# Altium footprint library ece315.PcbLib: 26 footprints (part 2 of 2)
Each footprint in its own frame and in the unit in brackets; x right, y up, seen from the top. Pads: shape width x height; smd on the part's side, far side on the other; paste and mask are expansions set on the pad; w line width, h text height; cw(c..) or ccw(c..) is an arc to the next point about the centre after c.
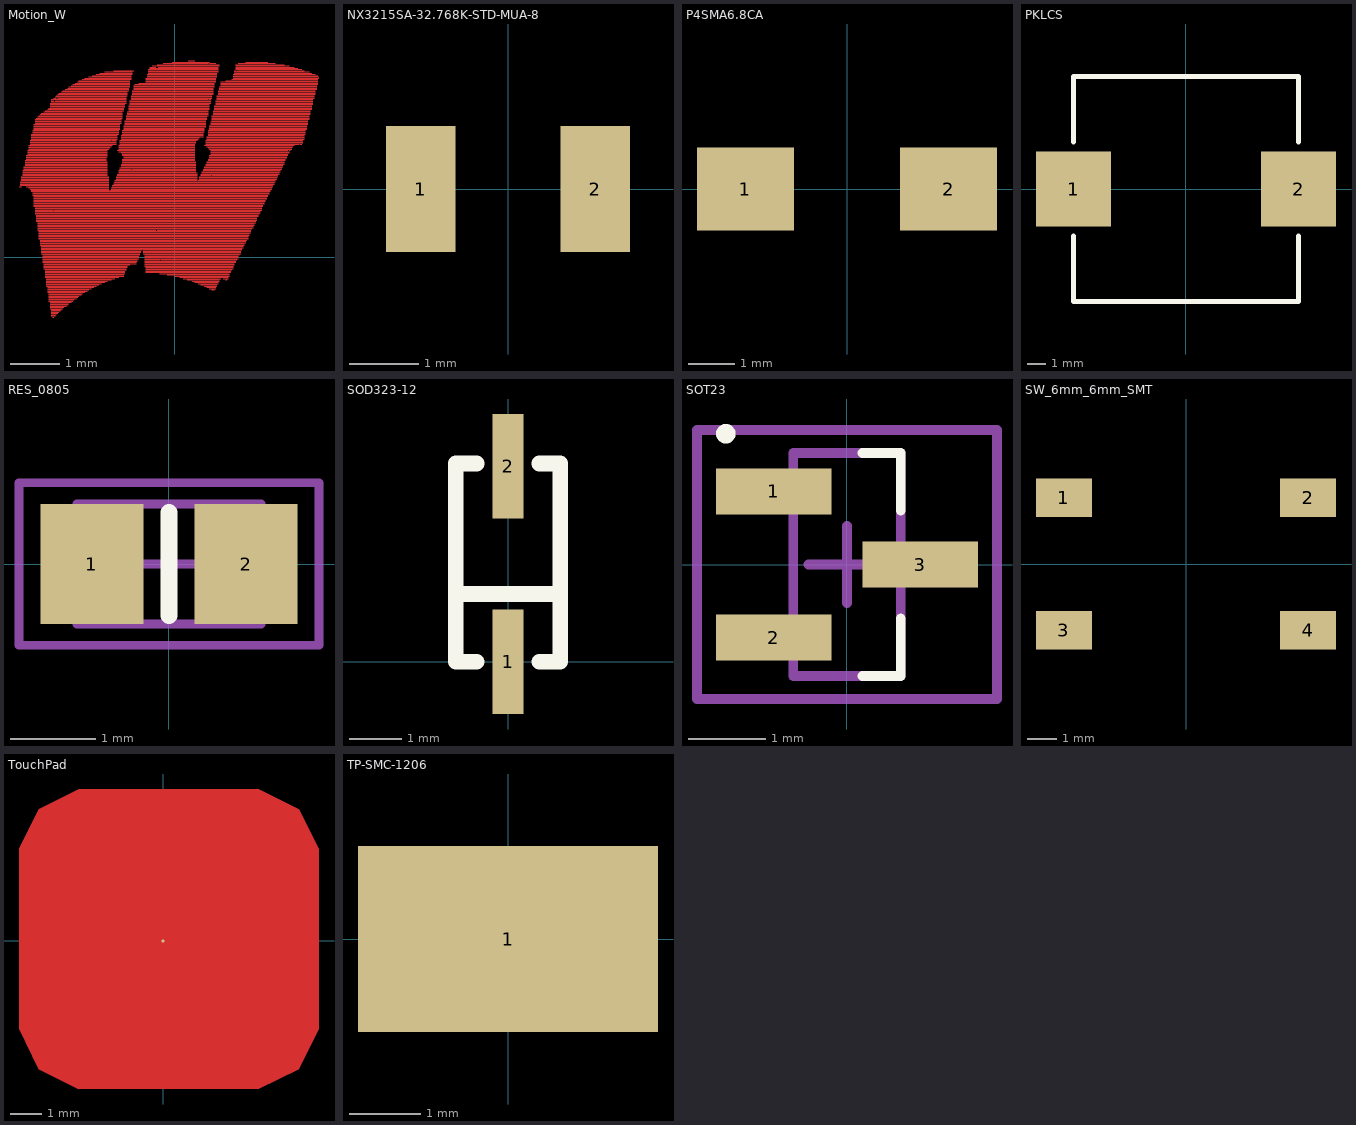
[diagram p1: the footprints below, top view; thin cyan lines are the x and y axes]

## Motion_W [mm]
Top Layer:
  lines w0.025: -3.175,1.448 -3.124,1.448 ; -3.15,1.473 -1.346,1.473 ; -3.15,1.499 -1.346,1.499 ; -3.15,1.524 -1.346,1.524 ; -3.15,1.549 -1.346,1.549 ; -3.124,1.575 -1.346,1.575 ; -3.124,1.6 -1.346,1.6 ; -3.124,1.626 -1.346,1.626 ; -3.124,1.651 -1.346,1.651 ; -3.099,1.676 -1.372,1.676 ; -3.099,1.702 -1.372,1.702 ; -3.099,1.727 -1.372,1.727 ; -3.099,1.753 -1.372,1.753 ; -3.099,1.778 -1.372,1.778 ; -3.073,1.803 -1.372,1.803 ; -3.073,1.829 -1.372,1.829 ; -3.073,1.854 -1.372,1.854 ; -3.048,1.88 -1.372,1.88 ; -3.048,1.905 -1.372,1.905 ; -3.048,1.93 -1.372,1.93 ; -3.048,1.956 -1.372,1.956 ; -3.048,1.981 -1.397,1.981 ; -3.023,1.448 -1.346,1.448 ; -3.023,2.007 -1.397,2.007 ; -3.023,2.032 -1.397,2.032 ; -3.023,2.057 -1.372,2.057 ; -3.023,2.083 -1.372,2.083 ; -2.997,2.108 -1.372,2.108 ; -2.997,2.134 -1.372,2.134 ; -2.997,2.159 -1.372,2.159 ; -2.997,2.184 -1.372,2.184 ; -2.972,1.422 -1.346,1.422 ; -2.972,2.21 -1.346,2.21 ; -2.972,2.235 -1.321,2.235 ; -2.972,2.261 -1.295,2.261 ; -2.972,2.286 -1.27,2.286 ; -2.946,1.397 -1.346,1.397 ; -2.946,2.311 -1.194,2.311 ; -2.946,2.337 -1.194,2.337 ; -2.946,2.362 -1.194,2.362 ; -2.946,2.388 -1.295,2.388 ; -2.921,1.346 1.956,1.346 ; -2.921,1.372 -1.346,1.372 ; -2.921,2.413 -1.168,2.413 ; -2.921,2.438 -1.168,2.438 ; -2.921,2.464 -1.168,2.464 ; -2.921,2.489 -1.168,2.489 ; -2.921,2.515 -1.143,2.515 ; -2.896,1.27 1.905,1.27 ; -2.896,1.295 1.93,1.295 ; -2.896,1.321 1.93,1.321 ; -2.896,2.54 -1.143,2.54 ; -2.896,2.565 -1.143,2.565 ; -2.896,2.591 -1.143,2.591 ; -2.87,1.041 1.803,1.041 ; -2.87,1.067 1.803,1.067 ; -2.87,1.092 1.829,1.092 ; -2.87,1.118 1.829,1.118 ; -2.87,1.143 1.854,1.143 ; -2.87,1.168 1.854,1.168 ; -2.87,1.194 1.88,1.194 ; -2.87,1.219 1.88,1.219 ; -2.87,1.245 1.905,1.245 ; -2.87,2.616 -1.118,2.616 ; -2.87,2.642 -1.118,2.642 ; -2.87,2.667 -1.118,2.667 ; -2.87,2.692 -1.118,2.692 ; -2.87,2.718 -1.118,2.718 ; -2.845,0.889 1.727,0.889 ; -2.845,0.914 1.753,0.914 ; -2.845,0.94 1.753,0.94 ; -2.845,0.965 -2.489,0.965 ; -2.845,0.991 1.778,0.991 ; -2.845,1.016 1.778,1.016 ; -2.845,2.743 -1.092,2.743 ; -2.845,2.769 -1.092,2.769 ; -2.845,2.794 -1.092,2.794 ; -2.845,2.819 -1.092,2.819 ; -2.819,0.737 1.651,0.737 ; -2.819,0.762 1.676,0.762 ; -2.819,0.787 1.676,0.787 ; -2.819,0.813 1.676,0.813 ; -2.819,0.838 1.702,0.838 ; -2.819,0.864 1.702,0.864 ; -2.819,2.845 -1.067,2.845 ; -2.794,0.559 -0.381,0.559 ; -2.794,0.584 1.575,0.584 ; -2.794,0.61 1.6,0.61 ; -2.794,0.635 1.6,0.635 ; -2.794,0.66 1.626,0.66 ; -2.794,0.686 1.626,0.686 ; -2.794,0.711 1.651,0.711 ; -2.794,2.87 -1.067,2.87 ; -2.769,0.381 1.499,0.381 ; -2.769,0.406 1.499,0.406 ; -2.769,0.432 1.499,0.432 ; -2.769,0.457 1.524,0.457 ; -2.769,0.483 1.524,0.483 ; -2.769,0.508 1.549,0.508 ; -2.769,0.533 1.549,0.533 ; -2.769,2.896 -1.067,2.896 ; -2.743,0.254 1.422,0.254 ; -2.743,0.279 1.422,0.279 ; -2.743,0.305 1.448,0.305 ; -2.743,0.33 1.448,0.33 ; -2.743,0.356 1.473,0.356 ; -2.743,2.921 -1.067,2.921 ; -2.718,0.076 -0.711,0.076 ; -2.718,0.102 -0.686,0.102 ; -2.718,0.127 -0.686,0.127 ; -2.718,0.152 -0.66,0.152 ; -2.718,0.178 1.372,0.178 ; -2.718,0.203 1.397,0.203 ; -2.718,0.229 1.397,0.229 ; -2.718,2.946 -1.067,2.946 ; -2.692,-0.102 -0.787,-0.102 ; -2.692,-0.076 -0.762,-0.076 ; -2.692,-0.051 -0.762,-0.051 ; -2.692,-0.025 -0.737,-0.025 ; -2.692,0 -0.737,0 ; -2.692,0.025 -0.737,0.025 ; -2.692,0.051 -0.711,0.051 ; -2.667,-0.229 -0.991,-0.229 ; -2.667,-0.203 -0.965,-0.203 ; -2.667,-0.178 -0.965,-0.178 ; -2.667,-0.152 -0.914,-0.152 ; -2.667,-0.127 -0.787,-0.127 ; -2.667,2.972 -1.067,2.972 ; -2.642,-0.406 -1.143,-0.406 ; -2.642,-0.381 -1.041,-0.381 ; -2.642,-0.356 -1.041,-0.356 ; -2.642,-0.33 -1.016,-0.33 ; -2.642,-0.305 -1.016,-0.305 ; -2.642,-0.279 -1.016,-0.279 ; -2.642,-0.254 -0.991,-0.254 ; -2.642,2.997 -1.041,2.997 ; -2.616,-0.584 -1.6,-0.584 ; -2.616,-0.559 -1.549,-0.559 ; -2.616,-0.533 -1.499,-0.533 ; -2.616,-0.508 -1.422,-0.508 ; -2.616,-0.483 -1.372,-0.483 ; -2.616,-0.457 -1.295,-0.457 ; -2.616,-0.432 -1.219,-0.432 ; -2.591,-0.711 -1.829,-0.711 ; -2.591,-0.686 -1.778,-0.686 ; -2.591,-0.66 -1.753,-0.66 ; -2.591,-0.635 -1.702,-0.635 ; -2.591,-0.61 -1.651,-0.61 ; -2.591,3.023 -1.041,3.023 ; -2.565,-0.889 -2.083,-0.889 ; -2.565,-0.864 -2.057,-0.864 ; -2.565,-0.838 -2.007,-0.838 ; -2.565,-0.813 -1.981,-0.813 ; -2.565,-0.787 -1.956,-0.787 ; -2.565,-0.762 -1.905,-0.762 ; -2.565,-0.737 -1.88,-0.737 ; -2.565,3.048 -1.041,3.048 ; -2.54,-1.041 -2.286,-1.041 ; -2.54,-1.016 -2.261,-1.016 ; -2.54,-0.991 -2.21,-0.991 ; -2.54,-0.965 -2.184,-0.965 ; -2.54,-0.94 -2.159,-0.94 ; -2.54,-0.914 -2.108,-0.914 ; -2.54,3.073 -1.016,3.073 ; -2.54,3.099 -1.016,3.099 ; -2.54,3.124 -1.016,3.124 ; -2.54,3.15 -0.991,3.15 ; -2.515,-1.194 -2.438,-1.194 ; -2.515,-1.168 -2.413,-1.168 ; -2.515,-1.143 -2.388,-1.143 ; -2.515,-1.118 -2.362,-1.118 ; -2.515,-1.092 -2.337,-1.092 ; -2.515,-1.067 -2.311,-1.067 ; -2.515,3.175 -0.991,3.175 ; -2.515,3.2 -2.464,3.2 ; -2.515,3.226 -0.991,3.226 ; -2.489,-1.219 -2.464,-1.219 ; -2.464,0.965 1.778,0.965 ; -2.464,3.251 -2.413,3.251 ; -2.438,3.2 -0.991,3.2 ; -2.438,3.277 -0.991,3.277 ; -2.413,3.302 -0.965,3.302 ; -2.388,3.251 -0.991,3.251 ; -2.388,3.327 -0.965,3.327 ; -2.362,3.353 -0.965,3.353 ; -2.311,3.378 -0.965,3.378 ; -2.286,3.404 -0.94,3.404 ; -2.235,3.429 -0.94,3.429 ; -2.184,3.454 -0.94,3.454 ; -2.159,3.48 -0.914,3.48 ; -2.108,3.505 -0.914,3.505 ; -2.083,3.531 -0.914,3.531 ; -2.032,3.556 -0.914,3.556 ; -1.981,3.581 -0.914,3.581 ; -1.956,3.607 -0.914,3.607 ; -1.88,3.632 -0.889,3.632 ; -1.829,3.658 -0.889,3.658 ; -1.753,3.683 -0.889,3.683 ; -1.676,3.708 -0.889,3.708 ; -1.6,3.734 -0.864,3.734 ; -1.524,3.759 -0.864,3.759 ; -1.422,3.785 -0.864,3.785 ; -1.321,1.372 1.956,1.372 ; -1.295,1.397 1.981,1.397 ; -1.295,1.422 1.981,1.422 ; -1.27,1.448 2.007,1.448 ; -1.27,1.473 2.007,1.473 ; -1.27,2.388 -1.194,2.388 ; -1.245,1.499 2.032,1.499 ; -1.245,1.524 2.032,1.524 ; -1.245,3.81 -0.838,3.81 ; -1.219,1.549 2.057,1.549 ; -1.219,1.575 0.457,1.575 ; -1.194,1.6 0.457,1.6 ; -1.194,1.626 0.457,1.626 ; -1.194,1.651 0.457,1.651 ; -1.168,1.676 0.457,1.676 ; -1.168,1.702 0.457,1.702 ; -1.168,2.184 0.406,2.184 ; -1.143,1.727 0.457,1.727 ; -1.143,1.753 0.432,1.753 ; -1.143,1.778 0.432,1.778 ; -1.143,2.159 0.406,2.159 ; -1.143,2.21 0.406,2.21 ; -1.143,2.235 0.406,2.235 ; -1.143,2.261 0.406,2.261 ; -1.143,2.286 0.406,2.286 ; -1.118,1.803 -0.889,1.803 ; -1.118,1.829 0.432,1.829 ; -1.118,2.311 0.406,2.311 ; -1.118,2.337 0.432,2.337 ; -1.118,2.362 0.432,2.362 ; -1.118,2.388 0.457,2.388 ; -1.092,1.854 0.432,1.854 ; -1.092,1.88 0.432,1.88 ; -1.092,1.905 0.432,1.905 ; -1.092,2.134 0.406,2.134 ; -1.092,2.413 0.483,2.413 ; -1.092,2.438 0.508,2.438 ; -1.092,2.464 0.584,2.464 ; -1.092,2.489 0.584,2.489 ; -1.067,1.93 0.432,1.93 ; -1.067,1.956 0.432,1.956 ; -1.067,1.981 0.406,1.981 ; -1.067,2.007 0.406,2.007 ; -1.067,2.083 0.406,2.083 ; -1.067,2.108 0.406,2.108 ; -1.067,2.515 0.584,2.515 ; -1.067,2.54 0.584,2.54 ; -1.067,2.565 0.61,2.565 ; -1.067,2.591 0.61,2.591 ; -1.041,2.032 0.406,2.032 ; -1.041,2.057 0.406,2.057 ; -1.041,2.616 0.61,2.616 ; -1.041,2.642 0.61,2.642 ; -1.041,2.667 0.635,2.667 ; -1.041,2.692 0.635,2.692 ; -1.016,2.718 0.635,2.718 ; -1.016,2.743 0.635,2.743 ; -1.016,2.769 0.635,2.769 ; -1.016,2.794 0.635,2.794 ; -0.991,2.819 0.66,2.819 ; -0.991,2.845 0.66,2.845 ; -0.991,2.87 0.66,2.87 ; -0.991,2.896 0.686,2.896 ; -0.965,2.921 0.686,2.921 ; -0.965,2.946 0.686,2.946 ; -0.965,2.972 0.686,2.972 ; -0.94,2.997 0.686,2.997 ; -0.94,3.023 0.711,3.023 ; -0.94,3.048 0.711,3.048 ; -0.94,3.073 0.711,3.073 ; -0.94,3.099 0.711,3.099 ; -0.914,3.124 0.711,3.124 ; -0.914,3.15 0.737,3.15 ; -0.914,3.175 0.737,3.175 ; -0.914,3.2 0.737,3.2 ; -0.889,3.226 0.686,3.226 ; -0.889,3.251 0.762,3.251 ; -0.889,3.277 0.762,3.277 ; -0.889,3.302 0.762,3.302 ; -0.864,1.803 0.432,1.803 ; -0.864,3.327 0.787,3.327 ; -0.864,3.353 0.787,3.353 ; -0.864,3.378 0.787,3.378 ; -0.864,3.404 0.787,3.404 ; -0.838,3.429 0.787,3.429 ; -0.838,3.454 0.787,3.454 ; -0.838,3.48 0.813,3.48 ; -0.838,3.505 0.813,3.505 ; -0.813,3.531 0.813,3.531 ; -0.737,3.556 0.813,3.556 ; -0.635,0.076 1.346,0.076 ; -0.635,0.102 1.346,0.102 ; -0.635,0.127 1.346,0.127 ; -0.635,0.152 1.372,0.152 ; -0.61,-0.178 1.194,-0.178 ; -0.61,-0.152 1.219,-0.152 ; -0.61,-0.127 1.219,-0.127 ; -0.61,-0.102 1.245,-0.102 ; -0.61,-0.076 1.245,-0.076 ; -0.61,-0.051 -0.305,-0.051 ; -0.61,-0.025 1.295,-0.025 ; -0.61,0 1.295,0 ; -0.61,0.025 1.295,0.025 ; -0.61,0.051 1.321,0.051 ; -0.584,-0.305 1.143,-0.305 ; -0.584,-0.279 1.143,-0.279 ; -0.584,-0.254 1.168,-0.254 ; -0.584,-0.229 1.194,-0.229 ; -0.584,-0.203 1.194,-0.203 ; -0.584,3.581 0.838,3.581 ; -0.584,3.607 0.838,3.607 ; -0.584,3.632 0.838,3.632 ; -0.584,3.658 0.838,3.658 ; -0.559,3.683 0.864,3.683 ; -0.559,3.708 0.864,3.708 ; -0.559,3.734 0.864,3.734 ; -0.533,3.759 0.864,3.759 ; -0.533,3.785 0.889,3.785 ; -0.533,3.81 0.889,3.81 ; -0.533,3.835 0.889,3.835 ; -0.508,3.861 0.889,3.861 ; -0.508,3.886 -0.381,3.886 ; -0.457,3.912 0.914,3.912 ; -0.356,0.559 1.549,0.559 ; -0.356,3.937 0.914,3.937 ; -0.33,3.886 0.889,3.886 ; -0.305,-0.33 1.118,-0.33 ; -0.279,-0.051 1.27,-0.051 ; -0.229,3.962 0.686,3.962 ; -0.152,-0.356 1.118,-0.356 ; -0.051,3.988 0.711,3.988 ; 0,-0.381 1.118,-0.381 ; 0.102,-0.406 1.092,-0.406 ; 0.178,-0.432 0.94,-0.432 ; 0.254,-0.457 0.914,-0.457 ; 0.279,4.013 0.406,4.013 ; 0.356,-0.483 0.914,-0.483 ; 0.406,-0.508 0.889,-0.508 ; 0.483,-0.533 0.889,-0.533 ; 0.483,1.575 2.057,1.575 ; 0.508,1.6 2.083,1.6 ; 0.508,1.626 2.083,1.626 ; 0.508,1.651 2.108,1.651 ; 0.533,-0.559 0.864,-0.559 ; 0.533,1.676 0.737,1.676 ; 0.533,1.702 2.134,1.702 ; 0.559,1.727 2.134,1.727 ; 0.559,1.753 2.159,1.753 ; 0.584,1.778 2.159,1.778 ; 0.584,1.803 2.184,1.803 ; 0.61,-0.584 0.864,-0.584 ; 0.61,1.829 2.184,1.829 ; 0.61,1.854 2.21,1.854 ; 0.61,2.286 2.438,2.286 ; 0.635,1.88 2.21,1.88 ; 0.635,1.905 2.235,1.905 ; 0.635,2.311 2.54,2.311 ; 0.635,2.337 2.616,2.337 ; 0.635,2.362 2.616,2.362 ; 0.635,2.388 2.616,2.388 ; 0.66,-0.61 0.838,-0.61 ; 0.66,1.93 2.235,1.93 ; 0.66,1.956 2.235,1.956 ; 0.66,2.261 2.413,2.261 ; 0.66,2.413 2.642,2.413 ; 0.66,2.438 2.642,2.438 ; 0.66,2.464 2.642,2.464 ; 0.686,1.981 2.261,1.981 ; 0.686,2.007 2.261,2.007 ; 0.686,2.235 2.388,2.235 ; 0.686,2.489 2.642,2.489 ; 0.686,2.515 2.667,2.515 ; 0.686,2.54 2.667,2.54 ; 0.686,2.565 2.667,2.565 ; 0.686,2.591 2.667,2.591 ; 0.711,-0.635 0.838,-0.635 ; 0.711,2.032 2.286,2.032 ; 0.711,2.057 2.286,2.057 ; 0.711,2.083 2.311,2.083 ; 0.711,2.21 2.388,2.21 ; 0.711,2.616 2.692,2.616 ; 0.711,2.642 2.692,2.642 ; 0.711,2.667 2.692,2.667 ; 0.711,2.692 2.692,2.692 ; 0.711,3.226 0.737,3.226 ; 0.711,3.962 0.838,3.962 ; 0.737,2.108 2.311,2.108 ; 0.737,2.134 2.337,2.134 ; 0.737,2.159 2.337,2.159 ; 0.737,2.184 2.311,2.184 ; 0.737,2.718 2.718,2.718 ; 0.737,2.743 2.718,2.743 ; 0.737,2.769 2.718,2.769 ; 0.762,-0.66 0.813,-0.66 ; 0.762,1.676 2.108,1.676 ; 0.762,2.794 2.718,2.794 ; 0.762,2.819 2.743,2.819 ; 0.762,2.845 2.743,2.845 ; 0.762,2.87 2.743,2.87 ; 0.762,2.896 2.743,2.896 ; 0.787,2.921 2.769,2.921 ; 0.787,2.946 2.769,2.946 ; 0.787,2.972 2.769,2.972 ; 0.787,2.997 2.769,2.997 ; 0.813,3.023 2.794,3.023 ; 0.813,3.048 2.794,3.048 ; 0.813,3.073 2.794,3.073 ; 0.813,3.099 2.794,3.099 ; 0.838,3.124 2.819,3.124 ; 0.838,3.15 2.819,3.15 ; 0.838,3.175 2.819,3.175 ; 0.838,3.2 2.819,3.2 ; 0.864,3.226 2.819,3.226 ; 0.864,3.251 2.845,3.251 ; 0.864,3.277 2.845,3.277 ; 0.864,3.302 2.845,3.302 ; 0.889,3.327 2.87,3.327 ; 0.889,3.353 2.87,3.353 ; 0.889,3.378 2.87,3.378 ; 0.889,3.404 2.87,3.404 ; 0.914,3.429 2.896,3.429 ; 0.914,3.454 2.896,3.454 ; 0.914,3.48 2.896,3.48 ; 0.94,3.505 2.896,3.505 ; 0.94,3.531 2.921,3.531 ; 0.94,3.556 2.921,3.556 ; 0.94,3.581 2.921,3.581 ; 0.991,-0.432 1.092,-0.432 ; 1.041,-0.457 1.067,-0.457 ; 1.041,3.607 2.921,3.607 ; 1.168,3.632 2.921,3.632 ; 1.194,3.658 2.946,3.658 ; 1.194,3.683 2.946,3.683 ; 1.194,3.708 2.921,3.708 ; 1.194,3.734 2.87,3.734 ; 1.219,3.759 2.794,3.759 ; 1.219,3.785 2.743,3.785 ; 1.219,3.81 1.245,3.81 ; 1.245,3.835 2.591,3.835 ; 1.245,3.861 2.515,3.861 ; 1.245,3.886 2.438,3.886 ; 1.245,3.912 2.337,3.912 ; 1.245,3.937 2.235,3.937 ; 1.27,3.81 2.642,3.81 ; 1.295,3.962 2.057,3.962 ; 1.448,3.988 1.905,3.988 ; 2.337,2.184 2.362,2.184 ; 2.565,2.311 2.591,2.311
Top Solder:
  drawing of 450 lines, arcs and shapes, not listed

## NX3215SA-32.768K-STD-MUA-8 [mm] "CRYSTAL 32.7680KHZ 12.5PF SMD"
pads (2):
  rect 1x1.8 smd: 1(-1.25,0) 2(1.25,0)

## P4SMA6.8CA [mm] "TVS Diode"
pads (2):
  rect 2.1x1.8 smd: 1(-2.2,0) 2(2.2,0)
3D body "P4SMASeries-M.stp": height 2.34, standoff 0, extent -2.641,-1.397 2.642,1.397

## PKLCS [mm] "Piezo Buzzer umuRata"
height 1.9
pads (2):
  rect 4x4 smd: 1(-6,0) 2(6,0)
Top Overlay:
  lines w0.254: -6,-2.5 -6,-6 6,-6 6,-2.5 ; -6,2.5 -6,6 6,6 6,2.5

## RES_0805 [mm] "Chip Resistor, Body 2.0x1.3mm, IPC Medium Density"
height 0.65
pads (2):
  rect 1.2x1.4 smd: 1(-0.9,0) 2(0.9,0)
Top Overlay:
  lines w0.2: 0,-0.6 0,0.6
Mechanical 13:
  lines w0.1: -1.075,-0.7 -1.075,0.7 1.075,0.7 1.075,-0.7 -1.075,-0.7
Mechanical 15:
  lines w0.1: -0.5,0 0.5,0 ; 0,-0.5 0,0.5 ; -1.75,-0.95 -1.75,0.95 1.75,0.95 1.75,-0.95 -1.75,-0.95
3D body: height 0.65, standoff 0, extent -1.075,-0.7 1.075,0.7

## SOD323-12 [mm] "Diode"
height 1
pads (2):
  rect 0.6x2 smd: 1(0,0) 2(0,3.75)
Top Overlay:
  lines w0.3: -1,1.3 1,1.3 ; -0.6,0 -1,0 -1,3.8 -0.6,3.8 ; 0.6,0 1,0 1,3.8 0.6,3.8

## SOT23 [mm] "SOT23, 3-Leads, Body 2.9x1.3mm, Pitch 0.95mm, Lead Span 2.5mm, IPC Medium Density"
height 1.1
pads (3):
  rect 1.5x0.6 smd: 1(-0.95,0.95) 2(-0.95,-0.95) 3(0.95,0)
Top Overlay:
  circle w0.127: c-1.575,1.7 r0.064
  lines w0.127: 0.2,-1.45 0.7,-1.45 0.7,-0.7 ; 0.2,1.45 0.7,1.45 0.7,0.7
Mechanical 13:
  lines w0.127: -0.7,-1.45 0.7,-1.45 0.7,1.45 -0.7,1.45 -0.7,-1.45
Mechanical 15:
  lines w0.127: -0.5,0 0.5,0 ; 0,-0.5 0,0.5 ; -1.95,-1.75 1.95,-1.75 1.95,1.75 -1.95,1.75 -1.95,-1.75
3D body "User Library-SOT23-3.STEP": height 1.3, standoff 0, extent -1.4,-1.45 1.4,1.45

## SW_6mm_6mm_SMT [mm] "Surface Mount Pushbutton"
pads (4):
  rect 1.9x1.3 smd: 1(-4.15,2.25) 2(4.15,2.25) 3(-4.15,-2.25) 4(4.15,-2.25)
3D body "PushButton_6mmx6mm.stp": height 3.92, standoff -0.48, extent -5,-3 5,3

## TouchPad [mm] "Cap Touch Pad"
pads (1):
  round 0.1 smd: 1(0,0)
Top Layer:
  region: 4.953,2.921 4.953,-2.794 4.318,-4.064 3.048,-4.699 -2.667,-4.699 -3.937,-4.064 -4.572,-2.794 -4.572,2.921 -3.937,4.191 -2.667,4.826 3.048,4.826 4.318,4.191

## TP-SMC-1206 [mm] "Surface mount test point 1206"
height 1.25
pads (1):
  rect 4.2x2.6 smd mask+0: 1(0,0)
3D body "c-1625854-1-ba-3d.stp": height 1.22, standoff -0.03, extent -1.575,-0.787 1.625,0.813